# EAGLE library part TDCG1060M (library TDCG1060M)
Clockmodule 10mm Green m.Plex c.c.-E4 Check availability <https://pricing.snapeda.com/parts/TDCG1060M/Vishay%20Semiconductors/view-part?ref=eda>
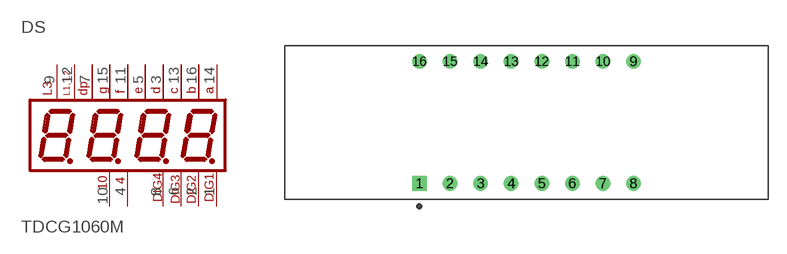
[diagram p0: symbol with the pads of DISPLAY_TDCG1060M; footprint DISPLAY_TDCG1060M]

Designator prefix DS

## TDCG1060M (Availability: In Stock; Description: Display Modules - LED Character and Numeric Green 7-Segment Clock 4 Character Common Cathode 2V 20mA 0.504 H x 1.583 W x 0.276 D (12.80mm x 40.20mm x 7.00mm) 16-DIP (0.400, 10.16mm); MF: Vishay Semiconductors; MP: TDCG1060M; Package: None; Price: None; Purchase-URL: https://pricing.snapeda.com/search/part/TDCG1060M/?ref=eda)  [DISPLAY_TDCG1060M]
1  DIG1  pas
2  DIG2  pas
3  D  pas
4  4  pas
5  E  pas
6  DIG3  pas
7  DP  pas
8  DIG4  pas
9  L3  pas
10  10  pas
11  F  pas
12  L1_L2  pas
13  C  pas
14  A  pas
15  G  pas
16  B  pas

## Footprint DISPLAY_TDCG1060M (pad centres in mm)
drill 0.7 pad 1.1 square: 1 -8.89,-5.08
drill 0.7 pad 1.1: 2 -6.35,-5.08; 3 -3.81,-5.08; 4 -1.27,-5.08; 5 1.27,-5.08; 6 3.81,-5.08; 7 6.35,-5.08; 8 8.89,-5.08; 9 8.89,5.08; 10 6.35,5.08; 11 3.81,5.08; 12 1.27,5.08; 13 -1.27,5.08; 14 -3.81,5.08; 15 -6.35,5.08; 16 -8.89,5.08